# Altium schematic symbol library allegro.SCHLIB: 19 symbols
Pins are listed as number, name and electrical type; pins without a type are passive.

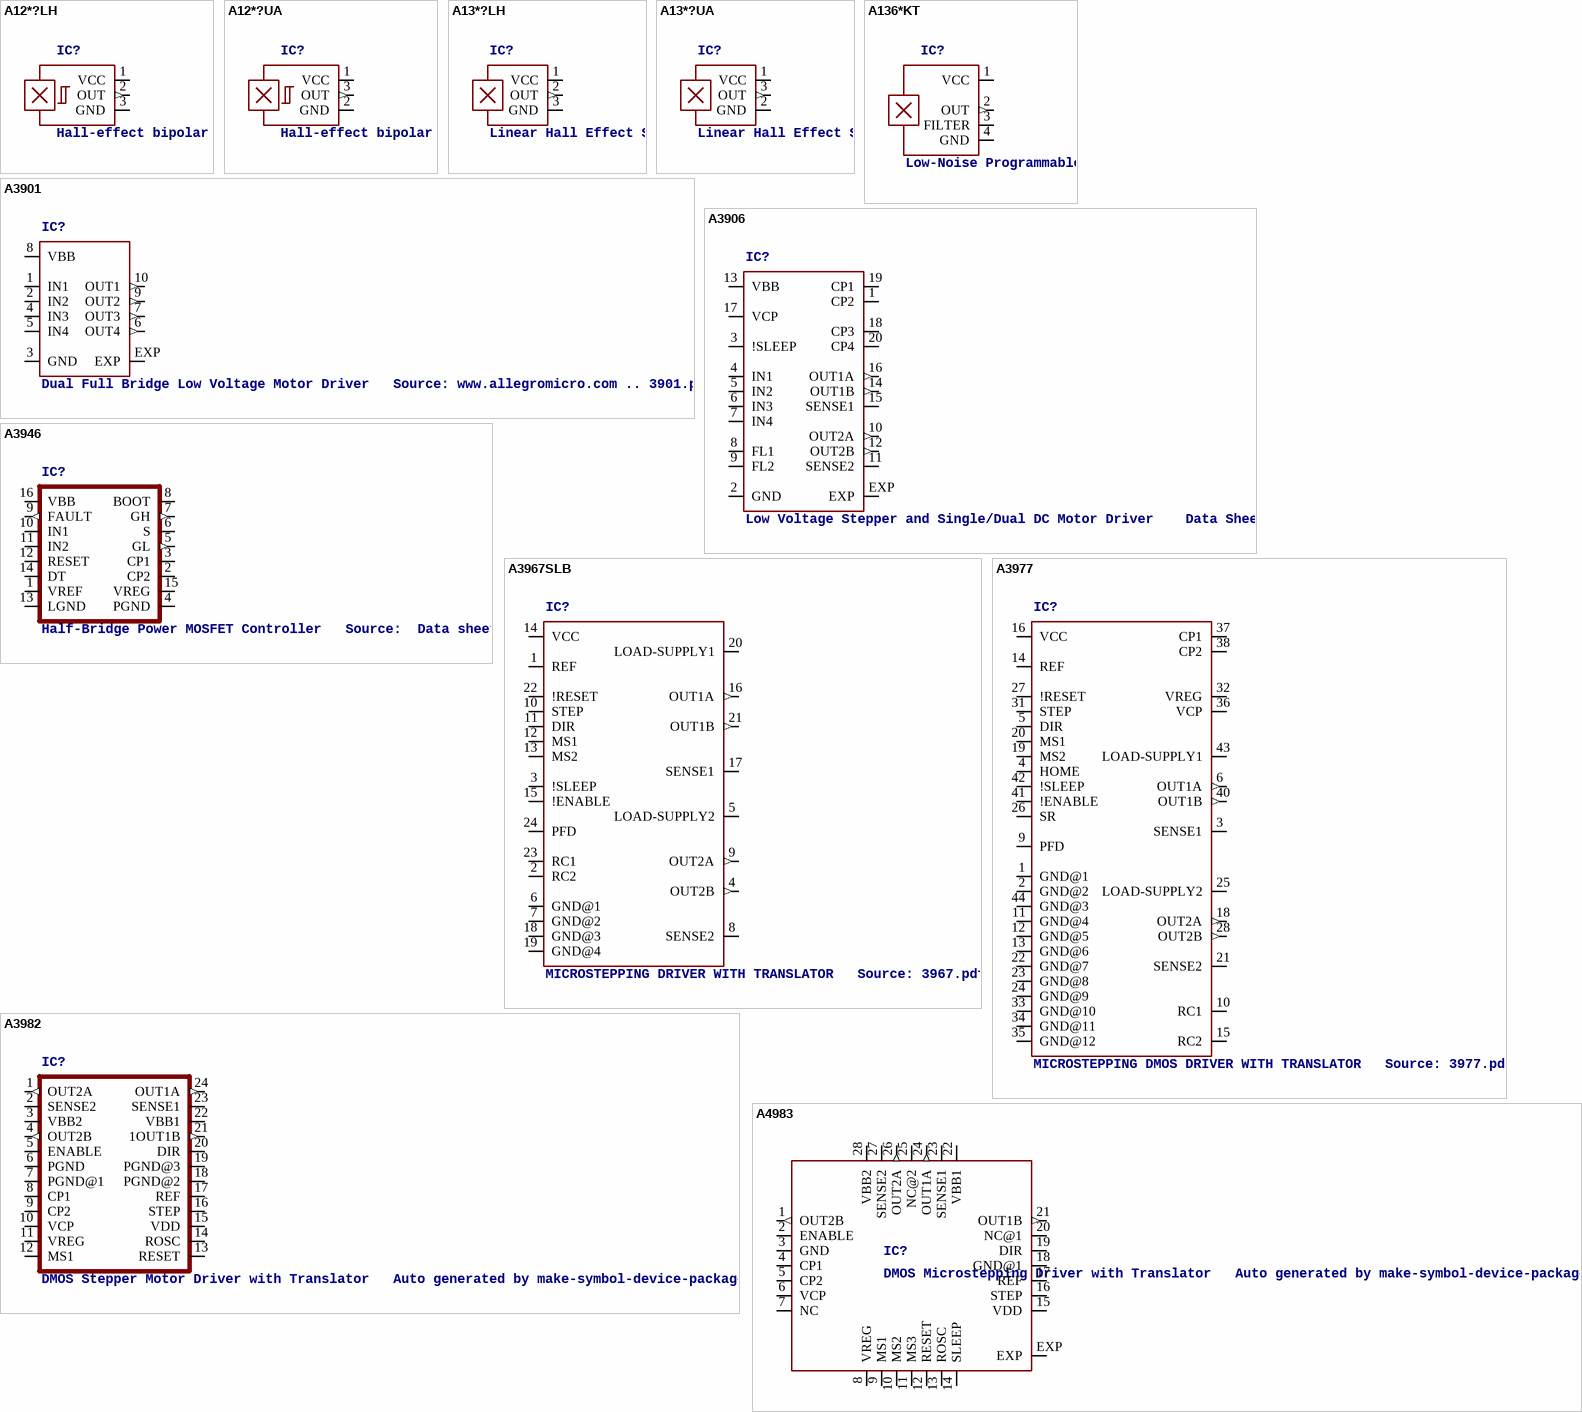
[diagram p0: symbols A12*?LH to A4983]

## A12*?LH
designator IC?, comment Hall-effect bipolar switch   Source: http://www.allegromicro.com/en/Products/Part_Numbers/1202/1202.pdf
MPN: A1203LLHLT-T; MF: ALLEGRO MICROSYSTEMS, INC.; OC_FARNELL: unknown; OC_NEWARK: unknown; OC_FARNELL: 1791384; OC_NEWARK: 31K6608
footprint SOT23-W
pins: 1 VCC (power), 2 OUT (out), 3 GND (power)

## A12*?UA
designator IC?, comment Hall-effect bipolar switch   Source: http://www.allegromicro.com/en/Products/Part_Numbers/1202/1202.pdf
OC_FARNELL: unknown; OC_NEWARK: unknown; OC_FARNELL: 1521672
footprint SIP3-UA
pins: 1 VCC (power), 2 GND (power), 3 OUT (out)

## A13*?LH
designator IC?, comment Linear Hall Effect Sensor ICs   Continuous-Time Ratiometric High-Temperature Operation Programmable Linear with Analog Output  A1302 -Replacement- UGN3503  Source: http://www.allegromicro.com/en/Products/Part_Numbers/1301/1301.pdf http://www.allegromicro.com/en/Products/Part_Numbers/1321/1321.pdf http://www.allegromicro.com/en/Products/Part_Numbers/1381/1381.pdf
MPN: A1301ELHLT-T; MPN: A1302ELHLT-T; MPN: A1321LLHLT-T; MPN: A1322LLHLT-T; MPN: A1323LLHLT-T; MPN: A1381LLHLT-T; MPN: A1382LLHLT-T; MPN: A1383LLHLT-T; MPN: A1384LLHLT-T; MF: ALLEGRO MICROSYSTEMS, INC.; OC_FARNELL: 1198084; OC_NEWARK: 31K6634; OC_FARNELL: 1457209; OC_NEWARK: 31K6638; OC_FARNELL: 1457116; OC_NEWARK: 65K5146; OC_FARNELL: 1323278; OC_NEWARK: 65K5149; OC_FARNELL: 1651968; OC_NEWARK: 65K5152; OC_FARNELL: unknown; OC_NEWARK: 30M9948; OC_NEWARK: 30M9952; OC_NEWARK: 30M9956; OC_NEWARK: 30M9960
footprint SOT23-W
pins: 1 VCC (power), 2 OUT (out), 3 GND (power)

## A13*?UA
designator IC?, comment Linear Hall Effect Sensor ICs   Continuous-Time Ratiometric High-Temperature Operation Programmable Linear with Analog Output  A1302 -Replacement- UGN3503  Source: http://www.allegromicro.com/en/Products/Part_Numbers/1301/1301.pdf http://www.allegromicro.com/en/Products/Part_Numbers/1321/1321.pdf http://www.allegromicro.com/en/Products/Part_Numbers/1381/1381.pdf
MPN: A1301EUA-T; MPN: A1302EUA-T; MPN: A1321EUA-T; MPN: A1322LUA-T; MPN: A1323LUA-T; MPN: A1381LUA-T; MPN: A1382LUA-T; MPN: A1383LUA-T; MPN: A1384LUA-T; MF: ALLEGRO MICROSYSTEMS, INC.; OC_FARNELL: 1198085; OC_NEWARK: 31K6635; OC_FARNELL: 1521708; OC_NEWARK: 31K6639; OC_FARNELL: 1521678; OC_NEWARK: 43K8768; OC_FARNELL: unknown; OC_NEWARK: 65K5150; OC_FARNELL: 1651969; OC_NEWARK: 65K5153; OC_NEWARK: 30M9949; OC_NEWARK: 30M9953; OC_NEWARK: 30M9957; OC_NEWARK: 30M9961
footprint SIP3-UA
pins: 1 VCC (power), 2 GND (power), 3 OUT (out)

## A136*KT
designator IC?, comment Low-Noise Programmable Linear Hall Effect Sensor   with Adjustable Bandwidth (50 kHz Maximum) and Analog Output Source: http://www.allegromicro.com/en/Products/Part_Numbers/1360/1360.pdf
MPN: A1361LKTTN-T; MPN: A1362LKTTN-T; OC_FARNELL: unknown; OC_NEWARK: unknown; OC_NEWARK: 61M4117; OC_NEWARK: 61M4118
footprint SIP4-KT
pins: 1 VCC (power), 2 OUT (out), 3 FILTER, 4 GND (power)

## A3901
designator IC?, comment Dual Full Bridge Low Voltage Motor Driver   Source: www.allegromicro.com .. 3901.pdf
MPN: A3901SEJTR-T; OC_FARNELL: 1651947; OC_NEWARK: 87K3379
footprint DFN10-3X3
pins: 1 IN1, 2 IN2, 3 GND (power), 4 IN3, 5 IN4, 6 OUT4 (out), 7 OUT3 (out), 8 VBB (power), 9 OUT2 (out), 10 OUT1 (out), EXP

## A3906
designator IC?, comment Low Voltage Stepper and Single/Dual DC Motor Driver    Data Sheet
footprint QFN20
pins: 1 CP2, 2 GND (power), 3 !SLEEP, 4 IN1, 5 IN2, 6 IN3, 7 IN4, 8 FL1, 9 FL2, 10 OUT2A (out), 11 SENSE2, 12 OUT2B (out), 13 VBB (power), 14 OUT1B (out), 15 SENSE1, 16 OUT1A (out), 17 VCP, 18 CP3, 19 CP1, 20 CP4, EXP

## A3946
designator IC?, comment Half-Bridge Power MOSFET Controller   Source:  Data sheet
footprint TSSOP16E
pins: 1 VREF, 2 CP2, 3 CP1, 4 PGND (power), 5 GL (out), 6 S, 7 GH (out), 8 BOOT, 9 FAULT (out), 10 IN1, 11 IN2, 12 RESET, 13 LGND (power), 14 DT, 15 VREG, 16 VBB

## A3967SLB
designator IC?, comment MICROSTEPPING DRIVER WITH TRANSLATOR   Source: 3967.pdf
MPN: A3967SLB-T; MF: ALLEGRO MICROSYSTEMS, INC.; OC_FARNELL: 1521715; OC_NEWARK: 08J5877
footprint SO24W
pins: 1 REF, 2 RC2, 3 !SLEEP, 4 OUT2B (out), 5 LOAD-SUPPLY2, 6 GND@1 (power), 7 GND@2 (power), 8 SENSE2, 9 OUT2A (out), 10 STEP, 11 DIR, 12 MS1, 13 MS2, 14 VCC (power), 15 !ENABLE, 16 OUT1A (out), 17 SENSE1, 18 GND@3 (power), 19 GND@4 (power), 20 LOAD-SUPPLY1, 21 OUT1B (out), 22 !RESET, 23 RC1, 24 PFD

## A3977
designator IC?, comment MICROSTEPPING DMOS DRIVER WITH TRANSLATOR   Source: 3977.pdf
MPN: A3977SED-T; MF: ALLEGRO MICROSYSTEMS, INC.; OC_FARNELL: 1198089; OC_NEWARK: 31K6655
footprint PLCC44
pins: 1 GND@1 (power), 2 GND@2 (power), 3 SENSE1, 4 HOME, 5 DIR, 6 OUT1A (out), 9 PFD, 10 RC1, 11 GND@4 (power), 12 GND@5 (power), 13 GND@6 (power), 14 REF, 15 RC2, 16 VCC (power), 18 OUT2A (out), 19 MS2, 20 MS1, 21 SENSE2, 22 GND@7 (power), 23 GND@8 (power), 24 GND@9 (power), 25 LOAD-SUPPLY2, 26 SR, 27 !RESET, 28 OUT2B (out), 31 STEP, 32 VREG, 33 GND@10 (power), 34 GND@11 (power), 35 GND@12 (power), 36 VCP, 37 CP1, 38 CP2, 40 OUT1B (out), 41 !ENABLE, 42 !SLEEP, 43 LOAD-SUPPLY1, 44 GND@3 (power)

## A3982
designator IC?, comment DMOS Stepper Motor Driver with Translator   Auto generated by make-symbol-device-package-bsdl.ulp Rev. 32 Source: http://www.allegromicro.com/en/Products/Part_Numbers/3982/3982.pdf
MPN: A3982SLB-T; MF: ALLEGRO MICROSYSTEMS, INC.; OC_FARNELL: 1521717; OC_NEWARK: 59J2492
footprint SO24W
pins: 1 OUT2A (out), 2 SENSE2, 3 VBB2 (power), 4 OUT2B (out), 5 ENABLE, 6 PGND (power), 7 PGND@1 (power), 8 CP1, 9 CP2, 10 VCP, 11 VREG, 12 MS1, 13 RESET, 14 ROSC, 15 VDD (power), 16 STEP, 17 REF, 18 PGND@2 (power), 19 PGND@3 (power), 20 DIR, 21 1OUT1B (out), 22 VBB1 (power), 23 SENSE1, 24 OUT1A (out)

## A4983
designator IC?, comment DMOS Microstepping Driver with Translator   Auto generated by make-symbol-device-package-bsdl.ulp Rev. 32 Source: http://www.allegromicro.com/en/Products/Part_Numbers/4983/4983.pdf
MPN: A4983SETTR-T; OC_FARNELL: 1688956; OC_NEWARK: 39M6763
footprint QFN28ET
pins: 1 OUT2B (out), 2 ENABLE, 3 GND (power), 4 CP1, 5 CP2, 6 VCP, 7 NC, 8 VREG, 9 MS1, 10 MS2, 11 MS3, 12 RESET, 13 ROSC, 14 SLEEP, 15 VDD (power), 16 STEP, 17 REF, 18 GND@1 (power), 19 DIR, 20 NC@1, 21 OUT1B (out), 22 VBB1 (power), 23 SENSE1, 24 OUT1A (out), 25 NC@2, 26 OUT2A (out), 27 SENSE2, 28 VBB2 (power), EXP

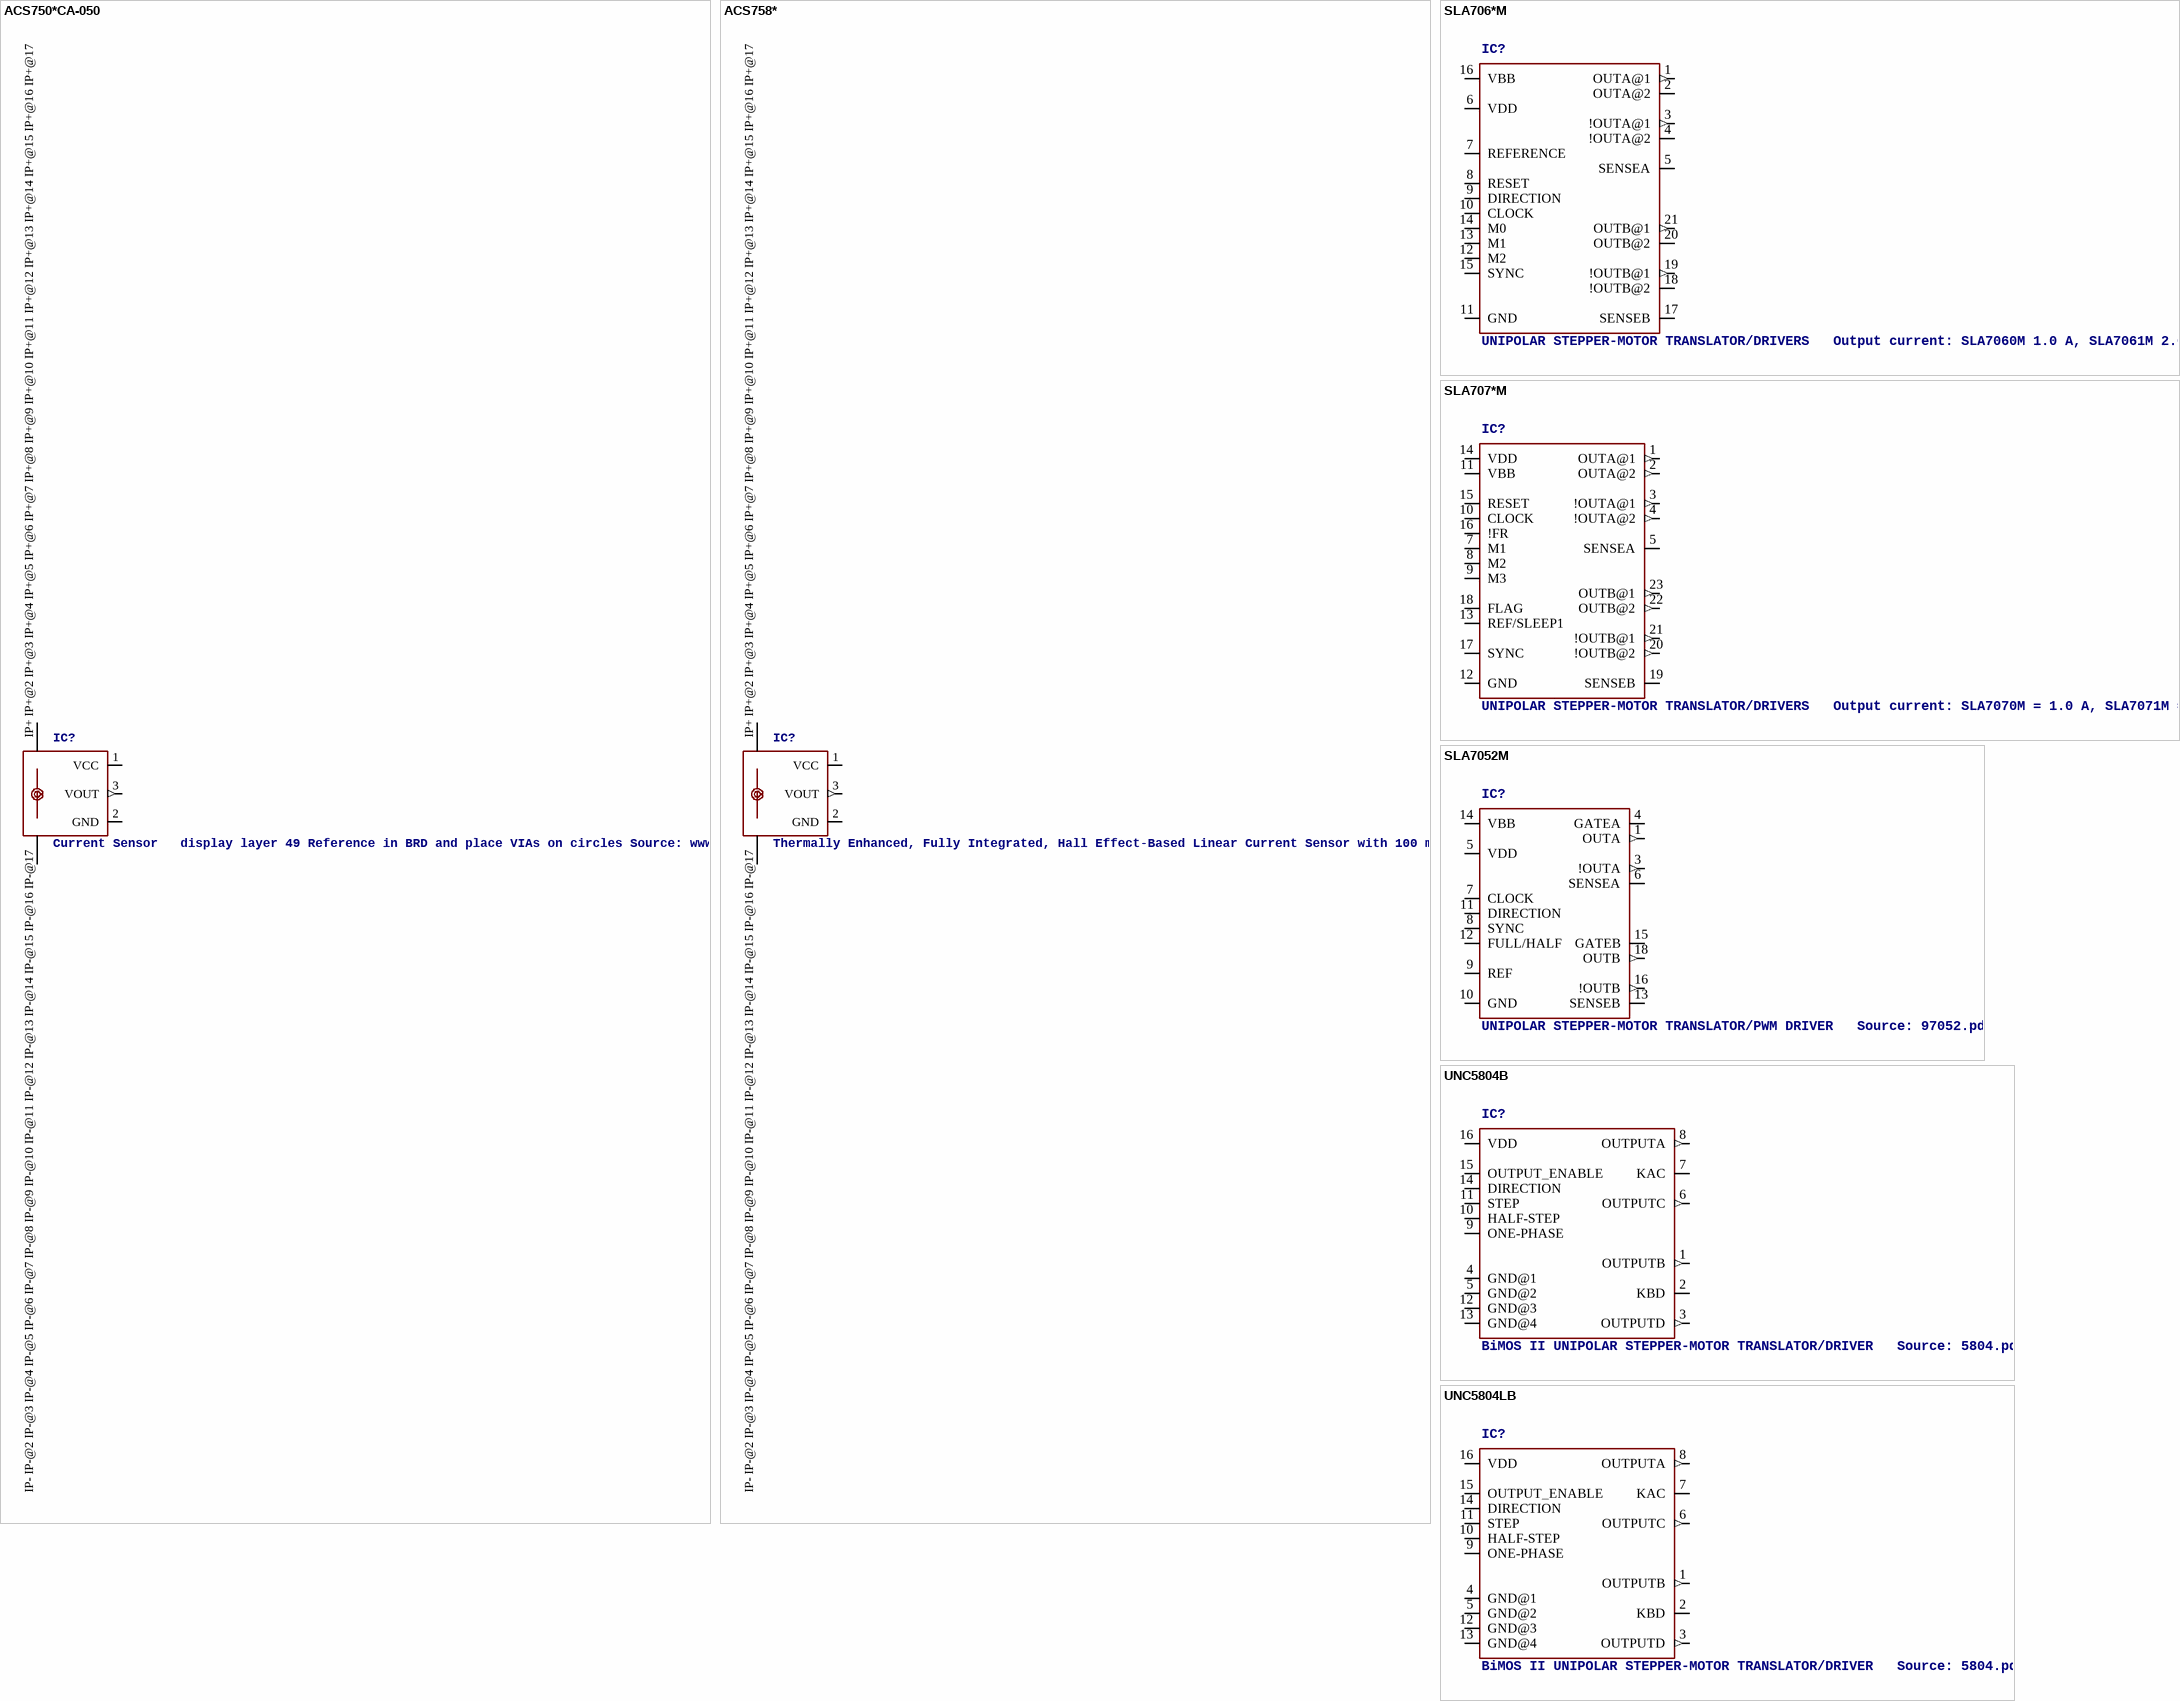
[diagram p1: symbols ACS750*CA-050 to UNC5804LB]

## ACS750*CA-050
designator IC?, comment Current Sensor   display layer 49 Reference in BRD and place VIAs on circles Source: www.allegromicro.com/datafile/0750-050.pdf
MPN: ACS750LCA-050; MPN: ACS750SCA-050; MF: ALLEGRO MICROSYSTEMS, INC.; OC_FARNELL: 1457176; OC_NEWARK: 61H4464; OC_FARNELL: 1457175; OC_NEWARK: 81H6588
footprint ACS75050
pins: 1 VCC (power), 2 GND (power), 3 VOUT (out), IP+ IP+@2 IP+@3 IP+@4 IP+@5 IP+@6 IP+@7 IP+@8 IP+@9 IP+@10 IP+@11 IP+@12 IP+@13 IP+@14 IP+@15 IP+@16 IP+@17 IP+, IP- IP-@2 IP-@3 IP-@4 IP-@5 IP-@6 IP-@7 IP-@8 IP-@9 IP-@10 IP-@11 IP-@12 IP-@13 IP-@14 IP-@15 IP-@16 IP-@17 IP-

## ACS758*
designator IC?, comment Thermally Enhanced, Fully Integrated, Hall Effect-Based Linear Current Sensor with 100 micro Ohm Current Conductor   display layer 49 Reference in BRD and place VIAs on circles Source: http://www.allegromicro.com/en/Products/Part_Numbers/0758/0758.pdf
MPN: ACS758ECB-200B-PFF-T; MPN: ACS758KCB-150B-PFF-T; MPN: ACS758LCB-050B-PFF-T; MPN: ACS758LCB-100B-PFF-T; OC_FARNELL: 1718993; OC_NEWARK: 04R7127; OC_FARNELL: 1718995; OC_NEWARK: 04R7129; OC_FARNELL: 1718997; OC_NEWARK: 04R7131; OC_FARNELL: 1718998; OC_NEWARK: 04R7132
footprint CB-PFF
pins: 1 VCC (power), 2 GND (power), 3 VOUT (out), IP+ IP+@2 IP+@3 IP+@4 IP+@5 IP+@6 IP+@7 IP+@8 IP+@9 IP+@10 IP+@11 IP+@12 IP+@13 IP+@14 IP+@15 IP+@16 IP+@17 IP+, IP- IP-@2 IP-@3 IP-@4 IP-@5 IP-@6 IP-@7 IP-@8 IP-@9 IP-@10 IP-@11 IP-@12 IP-@13 IP-@14 IP-@15 IP-@16 IP-@17 IP-

## SLA706*M
designator IC?, comment UNIPOLAR STEPPER-MOTOR TRANSLATOR/DRIVERS   Output current: SLA7060M 1.0 A, SLA7061M 2.0 A, SLA7062M 3.0 A Source: 97060.pdf
MF: ALLEGRO MICROSYSTEMS, INC.; MPN: SLA7060M; OC_FARNELL: unknown; OC_NEWARK: 61H9897; MPN: SLA7061M; OC_NEWARK: 61H9898; MPN: SLA7062M; OC_FARNELL: 1329628; OC_NEWARK: 77M9253
footprint ZIP21-SLA
pins: 1 OUTA@1 (out), 2 OUTA@2, 3 !OUTA@1 (out), 4 !OUTA@2, 5 SENSEA, 6 VDD (power), 7 REFERENCE, 8 RESET, 9 DIRECTION, 10 CLOCK, 11 GND (power), 12 M2, 13 M1, 14 M0, 15 SYNC, 16 VBB (power), 17 SENSEB, 18 !OUTB@2, 19 !OUTB@1 (out), 20 OUTB@2, 21 OUTB@1 (out)

## SLA707*M
designator IC?, comment UNIPOLAR STEPPER-MOTOR TRANSLATOR/DRIVERS   Output current: SLA7070M = 1.0 A, SLA7071M = 1.5 A, SLA7072M = 2.0 A, SLA7073M = 3.0 A Source: 2821003.pdf / 970701.pdf http://www.allegromicro.com/en/Products/Part_Numbers/970701/970702.pdf
MPN: SLA7070MR; MPN: SLA7071MR; MPN: SLA7072MR; MPN: SLA7073MR; MPN: SLA7075MR; MPN: SLA7076MR; MPN: SLA7077MR; MPN: SLA7078MR; OC_FARNELL: unknown; OC_NEWARK: 87K4943; OC_NEWARK: 87K4945; OC_NEWARK: 87K4947; OC_NEWARK: 87K4949; OC_NEWARK: 87K4951; OC_NEWARK: 87K4953; OC_NEWARK: 87K4955; OC_NEWARK: 87K4957
footprint ZIP23-SLA
pins: 1 OUTA@1 (out), 2 OUTA@2 (out), 3 !OUTA@1 (out), 4 !OUTA@2 (out), 5 SENSEA, 6 NC, 7 M1, 8 M2, 9 M3, 10 CLOCK, 11 VBB (power), 12 GND (power), 13 REF/SLEEP1 (power), 14 VDD (power), 15 RESET, 16 !FR, 17 SYNC, 18 FLAG, 19 SENSEB, 20 !OUTB@2 (out), 21 !OUTB@1 (out), 22 OUTB@2 (out), 23 OUTB@1 (out)

## SLA7052M
designator IC?, comment UNIPOLAR STEPPER-MOTOR TRANSLATOR/PWM DRIVER   Source: 97052.pdf
MPN: SLA7052M; MF: ALLEGRO MICROSYSTEMS, INC.; OC_FARNELL: unknown; OC_NEWARK: 31K7434
footprint SLA7052MLF872
pins: 1 OUTA (out), 3 !OUTA (out), 4 GATEA, 5 VDD (power), 6 SENSEA, 7 CLOCK (power), 8 SYNC (power), 9 REF (power), 10 GND (power), 11 DIRECTION (power), 12 FULL/HALF (power), 13 SENSEB, 14 VBB (power), 15 GATEB, 16 !OUTB (out), 18 OUTB (out)

## UNC5804B
designator IC?, comment BiMOS II UNIPOLAR STEPPER-MOTOR TRANSLATOR/DRIVER   Source: 5804.pdf
OC_FARNELL: unknown; OC_NEWARK: unknown
footprint DIL16
pins: 1 OUTPUTB (out), 2 KBD, 3 OUTPUTD (out), 4 GND@1 (power), 5 GND@2 (power), 6 OUTPUTC (out), 7 KAC, 8 OUTPUTA (out), 9 ONE-PHASE, 10 HALF-STEP, 11 STEP, 12 GND@3 (power), 13 GND@4 (power), 14 DIRECTION, 15 OUTPUT_ENABLE, 16 VDD (power)

## UNC5804LB
designator IC?, comment BiMOS II UNIPOLAR STEPPER-MOTOR TRANSLATOR/DRIVER   Source: 5804.pdf
OC_FARNELL: unknown; OC_NEWARK: unknown
footprint SO-16DW
pins: 1 OUTPUTB (out), 2 KBD, 3 OUTPUTD (out), 4 GND@1 (power), 5 GND@2 (power), 6 OUTPUTC (out), 7 KAC, 8 OUTPUTA (out), 9 ONE-PHASE, 10 HALF-STEP, 11 STEP, 12 GND@3 (power), 13 GND@4 (power), 14 DIRECTION, 15 OUTPUT_ENABLE, 16 VDD (power)